# Altium integrated library Linear Technology Power Management Power Control.IntLib: 661 symbols (part 29 of 43)
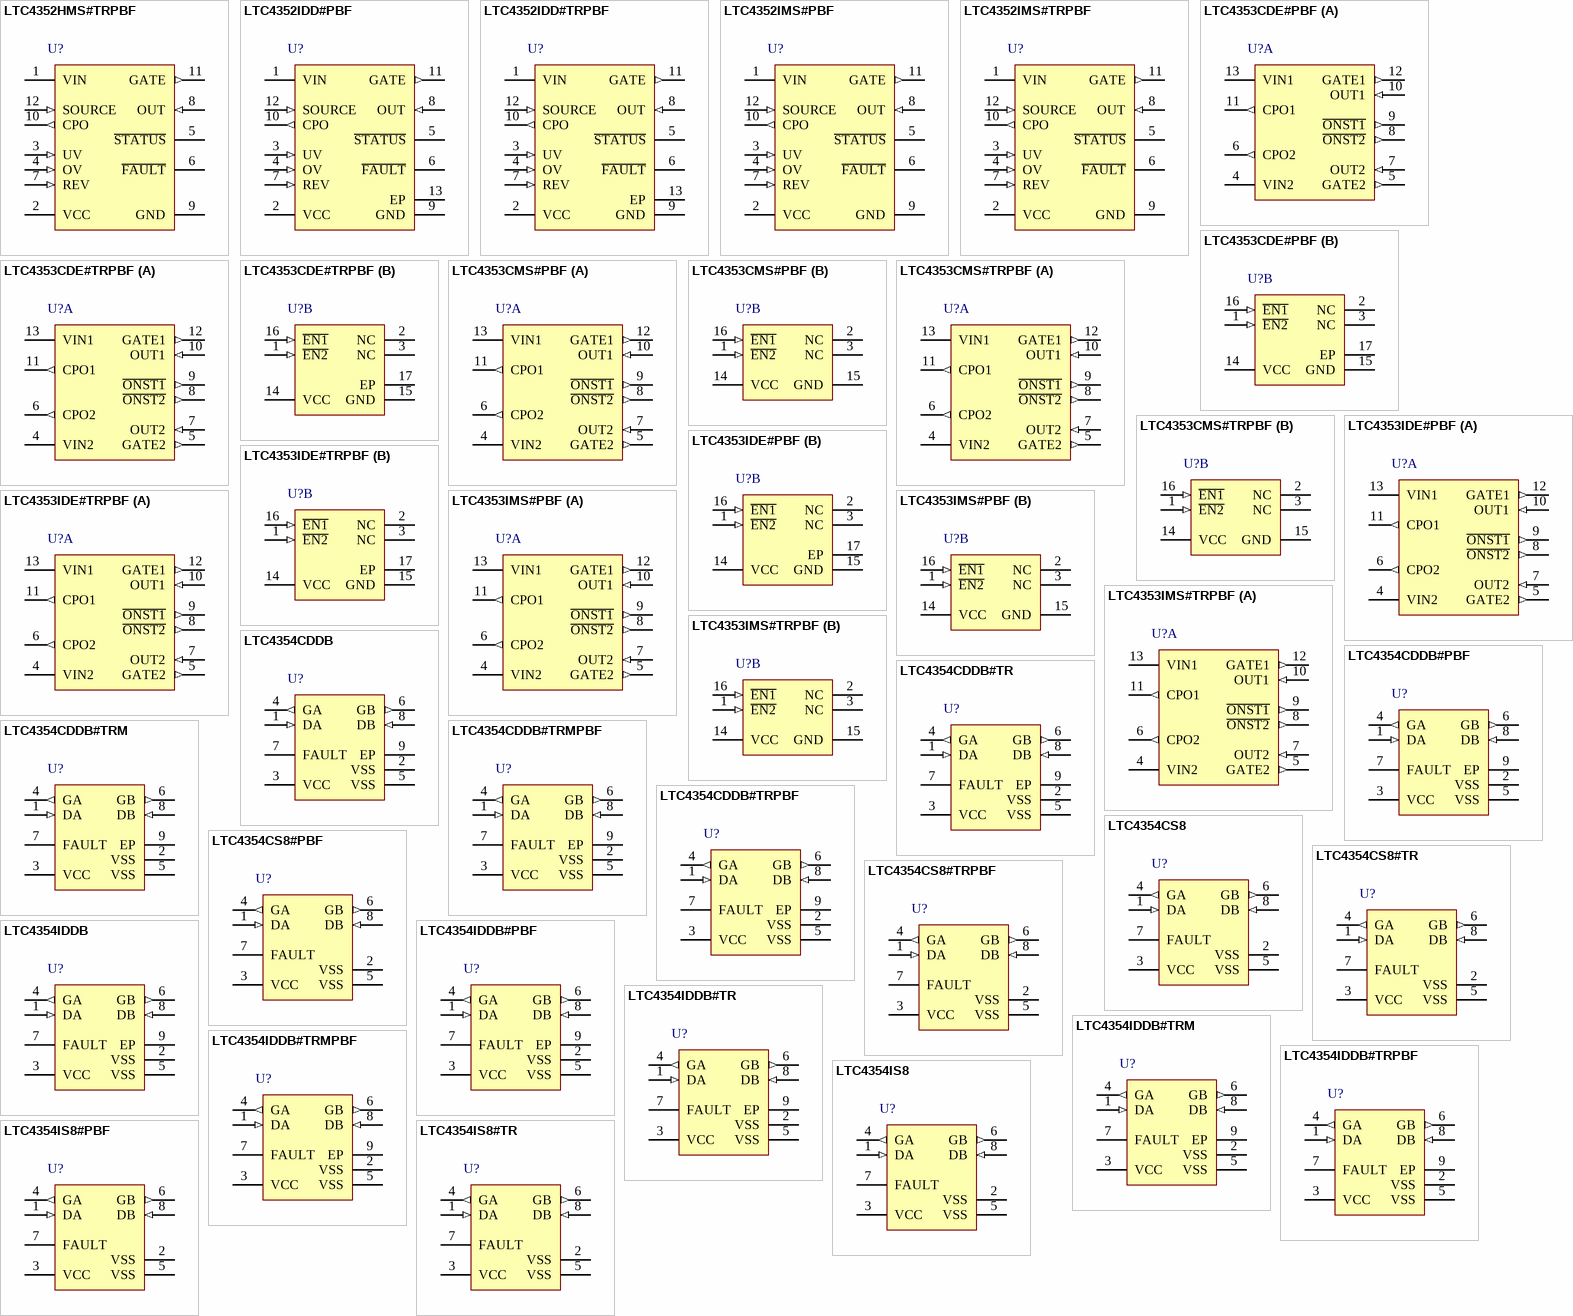
[diagram p47: symbols LTC4352HMS#TRPBF to LTC4354IS8#TR]

## LTC4354CDDB#TR
designator U?
Dual Channel, 1 us Turn-off Time, -12 to -80 V Vin, 8-pin SON (DDB-8), 0 to 70 degC, Tape and Reel; Manufacturer: Linear Technology; PartNumber: LTC4354CDDB#TR; Ideal Diode: Dual, External, N-Channel; DatasheetVersion: Rev. C; PackageVersion: Rev. B, 06/2010; PackageReference: DDB-8; PackageDescription: 8-Pin Plastic DFN, Body 3 x 2 mm, Pitch 0.5 mm; Supplier 1: Digi-Key; Supplier Part Number 1: LTC4354CDDB#TR-ND; Packing: Tape and Reel; RoHS: FALSE; Mounting Technology: Surface Mount; Code_JEDEC: MO-229; ComponentLink1Description: Manufacturer URL; ComponentLink1URL: http://www.linear.com/; ComponentLink2Description: Datasheet; ComponentLink2URL: http://cds.linear.com/docs/en/datasheet/4354fc.pdf; ComponentLink3Description: Package Specification; ComponentLink3URL: http://cds.linear.com/docs/en/packaging/DFN_8_05-08-1702.pdf
footprint LT-DDB-8_V (SON, 8-Leads, Body 3x2mm, Pitch 0.5mm, Thermal Pad 2.2x0.61mm)
pins: 1 DA (in) "Drain Voltage Sense Inputs. These pins sense source drain voltage drop across the N-channel MOSFETs. An external resistor is recommended to protect these pins from transient voltages exceeding 80V in extreme fault conditions.(See Datasheet)", 2 VSS (power) "Negative Supply Voltage Input. This is the device negative supply input and connects to the common source connection of the N-channel MOSFETs. It also connects to the source voltage sense input of the servo amplifiers. For (See Datasheet)", 3 VCC (power) "Positive Supply Voltage Input. Connect this pin to the positive side of the supply through a resistor. An internal shunt regulator that can sink up to 20mA typically clamps VCC at 11V. Bypass this pin with a 1uF capacitor to (See Datasheet)", 4 GA (out) "Gate Drive Outputs. Gate pins pull high to 10V minimum, fully enhancing the N-channel MOSFET, when the load current creates more than 30mV of drop across the MOSFET. When the load current is small, the gates are actively (See Datasheet)", 5 VSS (power) "Negative Supply Voltage Input. This is the device negative supply input and connects to the common source connection of the N-channel MOSFETs. It also connects to the source voltage sense input of the servo amplifiers. For (See Datasheet)", 6 GB (out) "Gate Drive Outputs. Gate pins pull high to 10V minimum, fully enhancing the N-channel MOSFET, when the load current creates more than 30mV of drop across the MOSFET. When the load current is small, the gates are actively (See Datasheet)", 7 FAULT (hiz) "Fault Output. Open-drain output that normally pulls the FAULT pin to VSS and shunts current to turn off an external LED or opto-coupler. In the fault condition, where the pass transistor is fully on and the voltage drop (See Datasheet)", 8 DB (in) "Drain Voltage Sense Inputs. These pins sense source drain voltage drop across the N-channel MOSFETs. An external resistor is recommended to protect these pins from transient voltages exceeding 80V in extreme fault conditions.(See Datasheet)", 9 EP (power) "Exposed pad is common to VSS and may be left open or connected to Pins 2 and 5."

## LTC4354CDDB#TRM
designator U?
Dual Channel, 1 us Turn-off Time, -12 to -80 V Vin, 8-pin SON (DDB-8), 0 to 70 degC, Mini Tape and Reel; Manufacturer: Linear Technology; PartNumber: LTC4354CDDB#TRM; Ideal Diode: Dual, External, N-Channel; DatasheetVersion: Rev. C; PackageVersion: Rev. B, 06/2010; PackageReference: DDB-8; PackageDescription: 8-Pin Plastic DFN, Body 3 x 2 mm, Pitch 0.5 mm; Supplier 1: Digi-Key; Supplier Part Number 1: LTC4354CDDB#TRM-ND; Packing: Mini Tape and Reel; RoHS: FALSE; Mounting Technology: Surface Mount; Code_JEDEC: MO-229; ComponentLink1Description: Manufacturer URL; ComponentLink1URL: http://www.linear.com/; ComponentLink2Description: Datasheet; ComponentLink2URL: http://cds.linear.com/docs/en/datasheet/4354fc.pdf; ComponentLink3Description: Package Specification; ComponentLink3URL: http://cds.linear.com/docs/en/packaging/DFN_8_05-08-1702.pdf
footprint LT-DDB-8_V (SON, 8-Leads, Body 3x2mm, Pitch 0.5mm, Thermal Pad 2.2x0.61mm)
pins: 1 DA (in) "Drain Voltage Sense Inputs. These pins sense source drain voltage drop across the N-channel MOSFETs. An external resistor is recommended to protect these pins from transient voltages exceeding 80V in extreme fault conditions.(See Datasheet)", 2 VSS (power) "Negative Supply Voltage Input. This is the device negative supply input and connects to the common source connection of the N-channel MOSFETs. It also connects to the source voltage sense input of the servo amplifiers. For (See Datasheet)", 3 VCC (power) "Positive Supply Voltage Input. Connect this pin to the positive side of the supply through a resistor. An internal shunt regulator that can sink up to 20mA typically clamps VCC at 11V. Bypass this pin with a 1uF capacitor to (See Datasheet)", 4 GA (out) "Gate Drive Outputs. Gate pins pull high to 10V minimum, fully enhancing the N-channel MOSFET, when the load current creates more than 30mV of drop across the MOSFET. When the load current is small, the gates are actively (See Datasheet)", 5 VSS (power) "Negative Supply Voltage Input. This is the device negative supply input and connects to the common source connection of the N-channel MOSFETs. It also connects to the source voltage sense input of the servo amplifiers. For (See Datasheet)", 6 GB (out) "Gate Drive Outputs. Gate pins pull high to 10V minimum, fully enhancing the N-channel MOSFET, when the load current creates more than 30mV of drop across the MOSFET. When the load current is small, the gates are actively (See Datasheet)", 7 FAULT (hiz) "Fault Output. Open-drain output that normally pulls the FAULT pin to VSS and shunts current to turn off an external LED or opto-coupler. In the fault condition, where the pass transistor is fully on and the voltage drop (See Datasheet)", 8 DB (in) "Drain Voltage Sense Inputs. These pins sense source drain voltage drop across the N-channel MOSFETs. An external resistor is recommended to protect these pins from transient voltages exceeding 80V in extreme fault conditions.(See Datasheet)", 9 EP (power) "Exposed pad is common to VSS and may be left open or connected to Pins 2 and 5."

## LTC4354CDDB#TRMPBF
designator U?
Dual Channel, 1 us Turn-off Time, -12 to -80 V Vin, 8-pin SON (DDB-8), 0 to 70 degC, Pb-Free, Mini Tape and Reel; Manufacturer: Linear Technology; PartNumber: LTC4354CDDB#TRMPBF; Ideal Diode: Dual, External, N-Channel; DatasheetVersion: Rev. C; PackageVersion: Rev. B, 06/2010; PackageReference: DDB-8; PackageDescription: 8-Pin Plastic DFN, Body 3 x 2 mm, Pitch 0.5 mm; Supplier 1: Digi-Key; Supplier Part Number 1: LTC4354CDDB#TRMPBF-ND; Packing: Mini Tape and Reel; RoHS: TRUE; Mounting Technology: Surface Mount; Code_JEDEC: MO-229; ComponentLink1Description: Manufacturer URL; ComponentLink1URL: http://www.linear.com/; ComponentLink2Description: Datasheet; ComponentLink2URL: http://cds.linear.com/docs/en/datasheet/4354fc.pdf; ComponentLink3Description: Package Specification; ComponentLink3URL: http://cds.linear.com/docs/en/packaging/DFN_8_05-08-1702.pdf
footprint LT-DDB-8_V (SON, 8-Leads, Body 3x2mm, Pitch 0.5mm, Thermal Pad 2.2x0.61mm)
pins: 1 DA (in) "Drain Voltage Sense Inputs. These pins sense source drain voltage drop across the N-channel MOSFETs. An external resistor is recommended to protect these pins from transient voltages exceeding 80V in extreme fault conditions.(See Datasheet)", 2 VSS (power) "Negative Supply Voltage Input. This is the device negative supply input and connects to the common source connection of the N-channel MOSFETs. It also connects to the source voltage sense input of the servo amplifiers. For (See Datasheet)", 3 VCC (power) "Positive Supply Voltage Input. Connect this pin to the positive side of the supply through a resistor. An internal shunt regulator that can sink up to 20mA typically clamps VCC at 11V. Bypass this pin with a 1uF capacitor to (See Datasheet)", 4 GA (out) "Gate Drive Outputs. Gate pins pull high to 10V minimum, fully enhancing the N-channel MOSFET, when the load current creates more than 30mV of drop across the MOSFET. When the load current is small, the gates are actively (See Datasheet)", 5 VSS (power) "Negative Supply Voltage Input. This is the device negative supply input and connects to the common source connection of the N-channel MOSFETs. It also connects to the source voltage sense input of the servo amplifiers. For (See Datasheet)", 6 GB (out) "Gate Drive Outputs. Gate pins pull high to 10V minimum, fully enhancing the N-channel MOSFET, when the load current creates more than 30mV of drop across the MOSFET. When the load current is small, the gates are actively (See Datasheet)", 7 FAULT (hiz) "Fault Output. Open-drain output that normally pulls the FAULT pin to VSS and shunts current to turn off an external LED or opto-coupler. In the fault condition, where the pass transistor is fully on and the voltage drop (See Datasheet)", 8 DB (in) "Drain Voltage Sense Inputs. These pins sense source drain voltage drop across the N-channel MOSFETs. An external resistor is recommended to protect these pins from transient voltages exceeding 80V in extreme fault conditions.(See Datasheet)", 9 EP (power) "Exposed pad is common to VSS and may be left open or connected to Pins 2 and 5."

## LTC4354CDDB#TRPBF
designator U?
Dual Channel, 1 us Turn-off Time, -12 to -80 V Vin, 8-pin SON (DDB-8), 0 to 70 degC, Pb-Free, Tape and Reel; Manufacturer: Linear Technology; PartNumber: LTC4354CDDB#TRPBF; Ideal Diode: Dual, External, N-Channel; DatasheetVersion: Rev. C; PackageVersion: Rev. B, 06/2010; PackageReference: DDB-8; PackageDescription: 8-Pin Plastic DFN, Body 3 x 2 mm, Pitch 0.5 mm; Supplier 1: Digi-Key; Supplier Part Number 1: LTC4354CDDB#TRPBF-ND; Packing: Tape and Reel; RoHS: TRUE; Mounting Technology: Surface Mount; Code_JEDEC: MO-229; ComponentLink1Description: Manufacturer URL; ComponentLink1URL: http://www.linear.com/; ComponentLink2Description: Datasheet; ComponentLink2URL: http://cds.linear.com/docs/en/datasheet/4354fc.pdf; ComponentLink3Description: Package Specification; ComponentLink3URL: http://cds.linear.com/docs/en/packaging/DFN_8_05-08-1702.pdf
footprint LT-DDB-8_V (SON, 8-Leads, Body 3x2mm, Pitch 0.5mm, Thermal Pad 2.2x0.61mm)
pins: 1 DA (in) "Drain Voltage Sense Inputs. These pins sense source drain voltage drop across the N-channel MOSFETs. An external resistor is recommended to protect these pins from transient voltages exceeding 80V in extreme fault conditions.(See Datasheet)", 2 VSS (power) "Negative Supply Voltage Input. This is the device negative supply input and connects to the common source connection of the N-channel MOSFETs. It also connects to the source voltage sense input of the servo amplifiers. For (See Datasheet)", 3 VCC (power) "Positive Supply Voltage Input. Connect this pin to the positive side of the supply through a resistor. An internal shunt regulator that can sink up to 20mA typically clamps VCC at 11V. Bypass this pin with a 1uF capacitor to (See Datasheet)", 4 GA (out) "Gate Drive Outputs. Gate pins pull high to 10V minimum, fully enhancing the N-channel MOSFET, when the load current creates more than 30mV of drop across the MOSFET. When the load current is small, the gates are actively (See Datasheet)", 5 VSS (power) "Negative Supply Voltage Input. This is the device negative supply input and connects to the common source connection of the N-channel MOSFETs. It also connects to the source voltage sense input of the servo amplifiers. For (See Datasheet)", 6 GB (out) "Gate Drive Outputs. Gate pins pull high to 10V minimum, fully enhancing the N-channel MOSFET, when the load current creates more than 30mV of drop across the MOSFET. When the load current is small, the gates are actively (See Datasheet)", 7 FAULT (hiz) "Fault Output. Open-drain output that normally pulls the FAULT pin to VSS and shunts current to turn off an external LED or opto-coupler. In the fault condition, where the pass transistor is fully on and the voltage drop (See Datasheet)", 8 DB (in) "Drain Voltage Sense Inputs. These pins sense source drain voltage drop across the N-channel MOSFETs. An external resistor is recommended to protect these pins from transient voltages exceeding 80V in extreme fault conditions.(See Datasheet)", 9 EP (power) "Exposed pad is common to VSS and may be left open or connected to Pins 2 and 5."

## LTC4354CS8
designator U?
Dual Channel, 1 us Turn-off Time, -12 to -80 V Vin, 8-pin SOIC (S8-8), 0 to 70 degC; Manufacturer: Linear Technology; PartNumber: LTC4354CS8; Ideal Diode: Dual, External, N-Channel; DatasheetVersion: Rev. C; PackageVersion: Rev. G, 03/2012; PackageReference: S8-8; PackageDescription: 8-Pin Plastic Small Outline (Narrow .150 Inch), Body 4.9 x 3.9 mm, Pitch 1.27 mm; Supplier 1: Digi-Key; Supplier Part Number 1: LTC4354CS8-ND; Supplier 2: Newark; Supplier Part Number 2: 56M9446; RoHS: FALSE; Mounting Technology: Surface Mount; ComponentLink1Description: Manufacturer URL; ComponentLink1URL: http://www.linear.com/; ComponentLink2Description: Datasheet; ComponentLink2URL: http://cds.linear.com/docs/en/datasheet/4354fc.pdf; ComponentLink3Description: Package Specification; ComponentLink3URL: http://cds.linear.com/docs/en/packaging/05081610_G_SO8.pdf
footprint LT-S8-8_N (SOIC, 8-Leads, Body 5x4mm, Pitch 1.27mm, IPC Medium Density)
footprint LT-S8-8_L (SOIC, 8-Leads, Body 5x4mm, Pitch 1.27mm, IPC High Density)
footprint LT-S8-8_M (SOIC, 8-Leads, Body 5x4mm, Pitch 1.27mm, IPC Low Density)
pins: 1 DA (in) "Drain Voltage Sense Inputs. These pins sense source drain voltage drop across the N-channel MOSFETs. An external resistor is recommended to protect these pins from transient voltages exceeding 80V in extreme fault conditions.(See Datasheet)", 2 VSS (power) "Negative Supply Voltage Input. This is the device negative supply input and connects to the common source connection of the N-channel MOSFETs. It also connects to the source voltage sense input of the servo amplifiers. For (See Datasheet)", 3 VCC (power) "Positive Supply Voltage Input. Connect this pin to the positive side of the supply through a resistor. An internal shunt regulator that can sink up to 20mA typically clamps VCC at 11V. Bypass this pin with a 1uF capacitor to (See Datasheet)", 4 GA (out) "Gate Drive Outputs. Gate pins pull high to 10V minimum, fully enhancing the N-channel MOSFET, when the load current creates more than 30mV of drop across the MOSFET. When the load current is small, the gates are actively (See Datasheet)", 5 VSS (power) "Negative Supply Voltage Input. This is the device negative supply input and connects to the common source connection of the N-channel MOSFETs. It also connects to the source voltage sense input of the servo amplifiers. For (See Datasheet)", 6 GB (out) "Gate Drive Outputs. Gate pins pull high to 10V minimum, fully enhancing the N-channel MOSFET, when the load current creates more than 30mV of drop across the MOSFET. When the load current is small, the gates are actively (See Datasheet)", 7 FAULT (hiz) "Fault Output. Open-drain output that normally pulls the FAULT pin to VSS and shunts current to turn off an external LED or opto-coupler. In the fault condition, where the pass transistor is fully on and the voltage drop (See Datasheet)", 8 DB (in) "Drain Voltage Sense Inputs. These pins sense source drain voltage drop across the N-channel MOSFETs. An external resistor is recommended to protect these pins from transient voltages exceeding 80V in extreme fault conditions.(See Datasheet)"

## LTC4354CS8#PBF
designator U?
Dual Channel, 1 us Turn-off Time, -12 to -80 V Vin, 8-pin SOIC (S8-8), 0 to 70 degC, Pb-Free; Manufacturer: Linear Technology; PartNumber: LTC4354CS8#PBF; Ideal Diode: Dual, External, N-Channel; DatasheetVersion: Rev. C; PackageVersion: Rev. G, 03/2012; PackageReference: S8-8; PackageDescription: 8-Pin Plastic Small Outline (Narrow .150 Inch), Body 4.9 x 3.9 mm, Pitch 1.27 mm; Supplier 1: Digi-Key; Supplier Part Number 1: LTC4354CS8#PBF-ND; Supplier 2: Farnell; Supplier Part Number 2: 2295290; Supplier 3: Newark; Supplier Part Number 3: 56M9447; RoHS: TRUE; Mounting Technology: Surface Mount; ComponentLink1Description: Manufacturer URL; ComponentLink1URL: http://www.linear.com/; ComponentLink2Description: Datasheet; ComponentLink2URL: http://cds.linear.com/docs/en/datasheet/4354fc.pdf; ComponentLink3Description: Package Specification; ComponentLink3URL: http://cds.linear.com/docs/en/packaging/05081610_G_SO8.pdf
footprint LT-S8-8_N (SOIC, 8-Leads, Body 5x4mm, Pitch 1.27mm, IPC Medium Density)
footprint LT-S8-8_L (SOIC, 8-Leads, Body 5x4mm, Pitch 1.27mm, IPC High Density)
footprint LT-S8-8_M (SOIC, 8-Leads, Body 5x4mm, Pitch 1.27mm, IPC Low Density)
pins: 1 DA (in) "Drain Voltage Sense Inputs. These pins sense source drain voltage drop across the N-channel MOSFETs. An external resistor is recommended to protect these pins from transient voltages exceeding 80V in extreme fault conditions.(See Datasheet)", 2 VSS (power) "Negative Supply Voltage Input. This is the device negative supply input and connects to the common source connection of the N-channel MOSFETs. It also connects to the source voltage sense input of the servo amplifiers. For (See Datasheet)", 3 VCC (power) "Positive Supply Voltage Input. Connect this pin to the positive side of the supply through a resistor. An internal shunt regulator that can sink up to 20mA typically clamps VCC at 11V. Bypass this pin with a 1uF capacitor to (See Datasheet)", 4 GA (out) "Gate Drive Outputs. Gate pins pull high to 10V minimum, fully enhancing the N-channel MOSFET, when the load current creates more than 30mV of drop across the MOSFET. When the load current is small, the gates are actively (See Datasheet)", 5 VSS (power) "Negative Supply Voltage Input. This is the device negative supply input and connects to the common source connection of the N-channel MOSFETs. It also connects to the source voltage sense input of the servo amplifiers. For (See Datasheet)", 6 GB (out) "Gate Drive Outputs. Gate pins pull high to 10V minimum, fully enhancing the N-channel MOSFET, when the load current creates more than 30mV of drop across the MOSFET. When the load current is small, the gates are actively (See Datasheet)", 7 FAULT (hiz) "Fault Output. Open-drain output that normally pulls the FAULT pin to VSS and shunts current to turn off an external LED or opto-coupler. In the fault condition, where the pass transistor is fully on and the voltage drop (See Datasheet)", 8 DB (in) "Drain Voltage Sense Inputs. These pins sense source drain voltage drop across the N-channel MOSFETs. An external resistor is recommended to protect these pins from transient voltages exceeding 80V in extreme fault conditions.(See Datasheet)"

## LTC4354CS8#TR
designator U?
Dual Channel, 1 us Turn-off Time, -12 to -80 V Vin, 8-pin SOIC (S8-8), 0 to 70 degC, Tape and Reel; Manufacturer: Linear Technology; PartNumber: LTC4354CS8#TR; Ideal Diode: Dual, External, N-Channel; DatasheetVersion: Rev. C; PackageVersion: Rev. G, 03/2012; PackageReference: S8-8; PackageDescription: 8-Pin Plastic Small Outline (Narrow .150 Inch), Body 4.9 x 3.9 mm, Pitch 1.27 mm; Supplier 1: Digi-Key; Supplier Part Number 1: LTC4354CS8#TR-ND; Supplier 2: Newark; Supplier Part Number 2: 56M9448; Packing: Tape and Reel; RoHS: FALSE; Mounting Technology: Surface Mount; ComponentLink1Description: Manufacturer URL; ComponentLink1URL: http://www.linear.com/; ComponentLink2Description: Datasheet; ComponentLink2URL: http://cds.linear.com/docs/en/datasheet/4354fc.pdf; ComponentLink3Description: Package Specification; ComponentLink3URL: http://cds.linear.com/docs/en/packaging/05081610_G_SO8.pdf
footprint LT-S8-8_N (SOIC, 8-Leads, Body 5x4mm, Pitch 1.27mm, IPC Medium Density)
footprint LT-S8-8_L (SOIC, 8-Leads, Body 5x4mm, Pitch 1.27mm, IPC High Density)
footprint LT-S8-8_M (SOIC, 8-Leads, Body 5x4mm, Pitch 1.27mm, IPC Low Density)
pins: 1 DA (in) "Drain Voltage Sense Inputs. These pins sense source drain voltage drop across the N-channel MOSFETs. An external resistor is recommended to protect these pins from transient voltages exceeding 80V in extreme fault conditions.(See Datasheet)", 2 VSS (power) "Negative Supply Voltage Input. This is the device negative supply input and connects to the common source connection of the N-channel MOSFETs. It also connects to the source voltage sense input of the servo amplifiers. For (See Datasheet)", 3 VCC (power) "Positive Supply Voltage Input. Connect this pin to the positive side of the supply through a resistor. An internal shunt regulator that can sink up to 20mA typically clamps VCC at 11V. Bypass this pin with a 1uF capacitor to (See Datasheet)", 4 GA (out) "Gate Drive Outputs. Gate pins pull high to 10V minimum, fully enhancing the N-channel MOSFET, when the load current creates more than 30mV of drop across the MOSFET. When the load current is small, the gates are actively (See Datasheet)", 5 VSS (power) "Negative Supply Voltage Input. This is the device negative supply input and connects to the common source connection of the N-channel MOSFETs. It also connects to the source voltage sense input of the servo amplifiers. For (See Datasheet)", 6 GB (out) "Gate Drive Outputs. Gate pins pull high to 10V minimum, fully enhancing the N-channel MOSFET, when the load current creates more than 30mV of drop across the MOSFET. When the load current is small, the gates are actively (See Datasheet)", 7 FAULT (hiz) "Fault Output. Open-drain output that normally pulls the FAULT pin to VSS and shunts current to turn off an external LED or opto-coupler. In the fault condition, where the pass transistor is fully on and the voltage drop (See Datasheet)", 8 DB (in) "Drain Voltage Sense Inputs. These pins sense source drain voltage drop across the N-channel MOSFETs. An external resistor is recommended to protect these pins from transient voltages exceeding 80V in extreme fault conditions.(See Datasheet)"

## LTC4354CS8#TRPBF
designator U?
Dual Channel, 1 us Turn-off Time, -12 to -80 V Vin, 8-pin SOIC (S8-8), 0 to 70 degC, Pb-Free, Tape and Reel; Manufacturer: Linear Technology; PartNumber: LTC4354CS8#TRPBF; Ideal Diode: Dual, External, N-Channel; DatasheetVersion: Rev. C; PackageVersion: Rev. G, 03/2012; PackageReference: S8-8; PackageDescription: 8-Pin Plastic Small Outline (Narrow .150 Inch), Body 4.9 x 3.9 mm, Pitch 1.27 mm; Supplier 1: Digi-Key; Supplier Part Number 1: LTC4354CS8#TRPBF-ND; Supplier 2: Newark; Supplier Part Number 2: 56M9449; Packing: Tape and Reel; RoHS: TRUE; Mounting Technology: Surface Mount; ComponentLink1Description: Manufacturer URL; ComponentLink1URL: http://www.linear.com/; ComponentLink2Description: Datasheet; ComponentLink2URL: http://cds.linear.com/docs/en/datasheet/4354fc.pdf; ComponentLink3Description: Package Specification; ComponentLink3URL: http://cds.linear.com/docs/en/packaging/05081610_G_SO8.pdf
footprint LT-S8-8_N (SOIC, 8-Leads, Body 5x4mm, Pitch 1.27mm, IPC Medium Density)
footprint LT-S8-8_L (SOIC, 8-Leads, Body 5x4mm, Pitch 1.27mm, IPC High Density)
footprint LT-S8-8_M (SOIC, 8-Leads, Body 5x4mm, Pitch 1.27mm, IPC Low Density)
pins: 1 DA (in) "Drain Voltage Sense Inputs. These pins sense source drain voltage drop across the N-channel MOSFETs. An external resistor is recommended to protect these pins from transient voltages exceeding 80V in extreme fault conditions.(See Datasheet)", 2 VSS (power) "Negative Supply Voltage Input. This is the device negative supply input and connects to the common source connection of the N-channel MOSFETs. It also connects to the source voltage sense input of the servo amplifiers. For (See Datasheet)", 3 VCC (power) "Positive Supply Voltage Input. Connect this pin to the positive side of the supply through a resistor. An internal shunt regulator that can sink up to 20mA typically clamps VCC at 11V. Bypass this pin with a 1uF capacitor to (See Datasheet)", 4 GA (out) "Gate Drive Outputs. Gate pins pull high to 10V minimum, fully enhancing the N-channel MOSFET, when the load current creates more than 30mV of drop across the MOSFET. When the load current is small, the gates are actively (See Datasheet)", 5 VSS (power) "Negative Supply Voltage Input. This is the device negative supply input and connects to the common source connection of the N-channel MOSFETs. It also connects to the source voltage sense input of the servo amplifiers. For (See Datasheet)", 6 GB (out) "Gate Drive Outputs. Gate pins pull high to 10V minimum, fully enhancing the N-channel MOSFET, when the load current creates more than 30mV of drop across the MOSFET. When the load current is small, the gates are actively (See Datasheet)", 7 FAULT (hiz) "Fault Output. Open-drain output that normally pulls the FAULT pin to VSS and shunts current to turn off an external LED or opto-coupler. In the fault condition, where the pass transistor is fully on and the voltage drop (See Datasheet)", 8 DB (in) "Drain Voltage Sense Inputs. These pins sense source drain voltage drop across the N-channel MOSFETs. An external resistor is recommended to protect these pins from transient voltages exceeding 80V in extreme fault conditions.(See Datasheet)"

## LTC4354IDDB
designator U?
Dual Channel, 1 us Turn-off Time, -12 to -80 V Vin, 8-pin SON (DDB-8), -40 to 85 degC; Manufacturer: Linear Technology; PartNumber: LTC4354IDDB; Ideal Diode: Dual, External, N-Channel; DatasheetVersion: Rev. C; PackageVersion: Rev. B, 06/2010; PackageReference: DDB-8; PackageDescription: 8-Pin Plastic DFN, Body 3 x 2 mm, Pitch 0.5 mm; RoHS: FALSE; Mounting Technology: Surface Mount; Code_JEDEC: MO-229; ComponentLink1Description: Manufacturer URL; ComponentLink1URL: http://www.linear.com/; ComponentLink2Description: Datasheet; ComponentLink2URL: http://cds.linear.com/docs/en/datasheet/4354fc.pdf; ComponentLink3Description: Package Specification; ComponentLink3URL: http://cds.linear.com/docs/en/packaging/DFN_8_05-08-1702.pdf
footprint LT-DDB-8_V (SON, 8-Leads, Body 3x2mm, Pitch 0.5mm, Thermal Pad 2.2x0.61mm)
pins: 1 DA (in) "Drain Voltage Sense Inputs. These pins sense source drain voltage drop across the N-channel MOSFETs. An external resistor is recommended to protect these pins from transient voltages exceeding 80V in extreme fault conditions.(See Datasheet)", 2 VSS (power) "Negative Supply Voltage Input. This is the device negative supply input and connects to the common source connection of the N-channel MOSFETs. It also connects to the source voltage sense input of the servo amplifiers. For (See Datasheet)", 3 VCC (power) "Positive Supply Voltage Input. Connect this pin to the positive side of the supply through a resistor. An internal shunt regulator that can sink up to 20mA typically clamps VCC at 11V. Bypass this pin with a 1uF capacitor to (See Datasheet)", 4 GA (out) "Gate Drive Outputs. Gate pins pull high to 10V minimum, fully enhancing the N-channel MOSFET, when the load current creates more than 30mV of drop across the MOSFET. When the load current is small, the gates are actively (See Datasheet)", 5 VSS (power) "Negative Supply Voltage Input. This is the device negative supply input and connects to the common source connection of the N-channel MOSFETs. It also connects to the source voltage sense input of the servo amplifiers. For (See Datasheet)", 6 GB (out) "Gate Drive Outputs. Gate pins pull high to 10V minimum, fully enhancing the N-channel MOSFET, when the load current creates more than 30mV of drop across the MOSFET. When the load current is small, the gates are actively (See Datasheet)", 7 FAULT (hiz) "Fault Output. Open-drain output that normally pulls the FAULT pin to VSS and shunts current to turn off an external LED or opto-coupler. In the fault condition, where the pass transistor is fully on and the voltage drop (See Datasheet)", 8 DB (in) "Drain Voltage Sense Inputs. These pins sense source drain voltage drop across the N-channel MOSFETs. An external resistor is recommended to protect these pins from transient voltages exceeding 80V in extreme fault conditions.(See Datasheet)", 9 EP (power) "Exposed pad is common to VSS and may be left open or connected to Pins 2 and 5."

## LTC4354IDDB#PBF
designator U?
Dual Channel, 1 us Turn-off Time, -12 to -80 V Vin, 8-pin SON (DDB-8), -40 to 85 degC, Pb-Free; Manufacturer: Linear Technology; PartNumber: LTC4354IDDB#PBF; Ideal Diode: Dual, External, N-Channel; DatasheetVersion: Rev. C; PackageVersion: Rev. B, 06/2010; PackageReference: DDB-8; PackageDescription: 8-Pin Plastic DFN, Body 3 x 2 mm, Pitch 0.5 mm; Supplier 1: Farnell; Supplier Part Number 1: 2295291; Supplier 2: Newark; Supplier Part Number 2: 78T3366; RoHS: TRUE; Mounting Technology: Surface Mount; Code_JEDEC: MO-229; ComponentLink1Description: Manufacturer URL; ComponentLink1URL: http://www.linear.com/; ComponentLink2Description: Datasheet; ComponentLink2URL: http://cds.linear.com/docs/en/datasheet/4354fc.pdf; ComponentLink3Description: Package Specification; ComponentLink3URL: http://cds.linear.com/docs/en/packaging/DFN_8_05-08-1702.pdf
footprint LT-DDB-8_V (SON, 8-Leads, Body 3x2mm, Pitch 0.5mm, Thermal Pad 2.2x0.61mm)
pins: 1 DA (in) "Drain Voltage Sense Inputs. These pins sense source drain voltage drop across the N-channel MOSFETs. An external resistor is recommended to protect these pins from transient voltages exceeding 80V in extreme fault conditions.(See Datasheet)", 2 VSS (power) "Negative Supply Voltage Input. This is the device negative supply input and connects to the common source connection of the N-channel MOSFETs. It also connects to the source voltage sense input of the servo amplifiers. For (See Datasheet)", 3 VCC (power) "Positive Supply Voltage Input. Connect this pin to the positive side of the supply through a resistor. An internal shunt regulator that can sink up to 20mA typically clamps VCC at 11V. Bypass this pin with a 1uF capacitor to (See Datasheet)", 4 GA (out) "Gate Drive Outputs. Gate pins pull high to 10V minimum, fully enhancing the N-channel MOSFET, when the load current creates more than 30mV of drop across the MOSFET. When the load current is small, the gates are actively (See Datasheet)", 5 VSS (power) "Negative Supply Voltage Input. This is the device negative supply input and connects to the common source connection of the N-channel MOSFETs. It also connects to the source voltage sense input of the servo amplifiers. For (See Datasheet)", 6 GB (out) "Gate Drive Outputs. Gate pins pull high to 10V minimum, fully enhancing the N-channel MOSFET, when the load current creates more than 30mV of drop across the MOSFET. When the load current is small, the gates are actively (See Datasheet)", 7 FAULT (hiz) "Fault Output. Open-drain output that normally pulls the FAULT pin to VSS and shunts current to turn off an external LED or opto-coupler. In the fault condition, where the pass transistor is fully on and the voltage drop (See Datasheet)", 8 DB (in) "Drain Voltage Sense Inputs. These pins sense source drain voltage drop across the N-channel MOSFETs. An external resistor is recommended to protect these pins from transient voltages exceeding 80V in extreme fault conditions.(See Datasheet)", 9 EP (power) "Exposed pad is common to VSS and may be left open or connected to Pins 2 and 5."

## LTC4354IDDB#TR
designator U?
Dual Channel, 1 us Turn-off Time, -12 to -80 V Vin, 8-pin SON (DDB-8), -40 to 85 degC, Tape and Reel; Manufacturer: Linear Technology; PartNumber: LTC4354IDDB#TR; Ideal Diode: Dual, External, N-Channel; DatasheetVersion: Rev. C; PackageVersion: Rev. B, 06/2010; PackageReference: DDB-8; PackageDescription: 8-Pin Plastic DFN, Body 3 x 2 mm, Pitch 0.5 mm; Supplier 1: Digi-Key; Supplier Part Number 1: LTC4354IDDB#TR-ND; Packing: Tape and Reel; RoHS: FALSE; Mounting Technology: Surface Mount; Code_JEDEC: MO-229; ComponentLink1Description: Manufacturer URL; ComponentLink1URL: http://www.linear.com/; ComponentLink2Description: Datasheet; ComponentLink2URL: http://cds.linear.com/docs/en/datasheet/4354fc.pdf; ComponentLink3Description: Package Specification; ComponentLink3URL: http://cds.linear.com/docs/en/packaging/DFN_8_05-08-1702.pdf
footprint LT-DDB-8_V (SON, 8-Leads, Body 3x2mm, Pitch 0.5mm, Thermal Pad 2.2x0.61mm)
pins: 1 DA (in) "Drain Voltage Sense Inputs. These pins sense source drain voltage drop across the N-channel MOSFETs. An external resistor is recommended to protect these pins from transient voltages exceeding 80V in extreme fault conditions.(See Datasheet)", 2 VSS (power) "Negative Supply Voltage Input. This is the device negative supply input and connects to the common source connection of the N-channel MOSFETs. It also connects to the source voltage sense input of the servo amplifiers. For (See Datasheet)", 3 VCC (power) "Positive Supply Voltage Input. Connect this pin to the positive side of the supply through a resistor. An internal shunt regulator that can sink up to 20mA typically clamps VCC at 11V. Bypass this pin with a 1uF capacitor to (See Datasheet)", 4 GA (out) "Gate Drive Outputs. Gate pins pull high to 10V minimum, fully enhancing the N-channel MOSFET, when the load current creates more than 30mV of drop across the MOSFET. When the load current is small, the gates are actively (See Datasheet)", 5 VSS (power) "Negative Supply Voltage Input. This is the device negative supply input and connects to the common source connection of the N-channel MOSFETs. It also connects to the source voltage sense input of the servo amplifiers. For (See Datasheet)", 6 GB (out) "Gate Drive Outputs. Gate pins pull high to 10V minimum, fully enhancing the N-channel MOSFET, when the load current creates more than 30mV of drop across the MOSFET. When the load current is small, the gates are actively (See Datasheet)", 7 FAULT (hiz) "Fault Output. Open-drain output that normally pulls the FAULT pin to VSS and shunts current to turn off an external LED or opto-coupler. In the fault condition, where the pass transistor is fully on and the voltage drop (See Datasheet)", 8 DB (in) "Drain Voltage Sense Inputs. These pins sense source drain voltage drop across the N-channel MOSFETs. An external resistor is recommended to protect these pins from transient voltages exceeding 80V in extreme fault conditions.(See Datasheet)", 9 EP (power) "Exposed pad is common to VSS and may be left open or connected to Pins 2 and 5."

## LTC4354IDDB#TRM
designator U?
Dual Channel, 1 us Turn-off Time, -12 to -80 V Vin, 8-pin SON (DDB-8), -40 to 85 degC, Mini Tape and Reel; Manufacturer: Linear Technology; PartNumber: LTC4354IDDB#TRM; Ideal Diode: Dual, External, N-Channel; DatasheetVersion: Rev. C; PackageVersion: Rev. B, 06/2010; PackageReference: DDB-8; PackageDescription: 8-Pin Plastic DFN, Body 3 x 2 mm, Pitch 0.5 mm; Supplier 1: Digi-Key; Supplier Part Number 1: LTC4354IDDB#TRM-ND; Packing: Mini Tape and Reel; RoHS: FALSE; Mounting Technology: Surface Mount; Code_JEDEC: MO-229; ComponentLink1Description: Manufacturer URL; ComponentLink1URL: http://www.linear.com/; ComponentLink2Description: Datasheet; ComponentLink2URL: http://cds.linear.com/docs/en/datasheet/4354fc.pdf; ComponentLink3Description: Package Specification; ComponentLink3URL: http://cds.linear.com/docs/en/packaging/DFN_8_05-08-1702.pdf
footprint LT-DDB-8_V (SON, 8-Leads, Body 3x2mm, Pitch 0.5mm, Thermal Pad 2.2x0.61mm)
pins: 1 DA (in) "Drain Voltage Sense Inputs. These pins sense source drain voltage drop across the N-channel MOSFETs. An external resistor is recommended to protect these pins from transient voltages exceeding 80V in extreme fault conditions.(See Datasheet)", 2 VSS (power) "Negative Supply Voltage Input. This is the device negative supply input and connects to the common source connection of the N-channel MOSFETs. It also connects to the source voltage sense input of the servo amplifiers. For (See Datasheet)", 3 VCC (power) "Positive Supply Voltage Input. Connect this pin to the positive side of the supply through a resistor. An internal shunt regulator that can sink up to 20mA typically clamps VCC at 11V. Bypass this pin with a 1uF capacitor to (See Datasheet)", 4 GA (out) "Gate Drive Outputs. Gate pins pull high to 10V minimum, fully enhancing the N-channel MOSFET, when the load current creates more than 30mV of drop across the MOSFET. When the load current is small, the gates are actively (See Datasheet)", 5 VSS (power) "Negative Supply Voltage Input. This is the device negative supply input and connects to the common source connection of the N-channel MOSFETs. It also connects to the source voltage sense input of the servo amplifiers. For (See Datasheet)", 6 GB (out) "Gate Drive Outputs. Gate pins pull high to 10V minimum, fully enhancing the N-channel MOSFET, when the load current creates more than 30mV of drop across the MOSFET. When the load current is small, the gates are actively (See Datasheet)", 7 FAULT (hiz) "Fault Output. Open-drain output that normally pulls the FAULT pin to VSS and shunts current to turn off an external LED or opto-coupler. In the fault condition, where the pass transistor is fully on and the voltage drop (See Datasheet)", 8 DB (in) "Drain Voltage Sense Inputs. These pins sense source drain voltage drop across the N-channel MOSFETs. An external resistor is recommended to protect these pins from transient voltages exceeding 80V in extreme fault conditions.(See Datasheet)", 9 EP (power) "Exposed pad is common to VSS and may be left open or connected to Pins 2 and 5."

## LTC4354IDDB#TRMPBF
designator U?
Dual Channel, 1 us Turn-off Time, -12 to -80 V Vin, 8-pin SON (DDB-8), -40 to 85 degC, Pb-Free, Mini Tape and Reel; Manufacturer: Linear Technology; PartNumber: LTC4354IDDB#TRMPBF; Ideal Diode: Dual, External, N-Channel; DatasheetVersion: Rev. C; PackageVersion: Rev. B, 06/2010; PackageReference: DDB-8; PackageDescription: 8-Pin Plastic DFN, Body 3 x 2 mm, Pitch 0.5 mm; Supplier 1: Digi-Key; Supplier Part Number 1: LTC4354IDDB#TRMPBFTR-ND; Supplier 2: Digi-Key; Supplier Part Number 2: LTC4354IDDB#TRMPBFCT-ND; Supplier 3: Digi-Key; Supplier Part Number 3: LTC4354IDDB#TRMPBFDKR-ND; Supplier 4: Newark; Supplier Part Number 4: 56M9452; Packing: Mini Tape and Reel; RoHS: TRUE; Mounting Technology: Surface Mount; Code_JEDEC: MO-229; ComponentLink1Description: Manufacturer URL; ComponentLink1URL: http://www.linear.com/; ComponentLink2Description: Datasheet; ComponentLink2URL: http://cds.linear.com/docs/en/datasheet/4354fc.pdf; ComponentLink3Description: Package Specification; ComponentLink3URL: http://cds.linear.com/docs/en/packaging/DFN_8_05-08-1702.pdf
footprint LT-DDB-8_V (SON, 8-Leads, Body 3x2mm, Pitch 0.5mm, Thermal Pad 2.2x0.61mm)
pins: 1 DA (in) "Drain Voltage Sense Inputs. These pins sense source drain voltage drop across the N-channel MOSFETs. An external resistor is recommended to protect these pins from transient voltages exceeding 80V in extreme fault conditions.(See Datasheet)", 2 VSS (power) "Negative Supply Voltage Input. This is the device negative supply input and connects to the common source connection of the N-channel MOSFETs. It also connects to the source voltage sense input of the servo amplifiers. For (See Datasheet)", 3 VCC (power) "Positive Supply Voltage Input. Connect this pin to the positive side of the supply through a resistor. An internal shunt regulator that can sink up to 20mA typically clamps VCC at 11V. Bypass this pin with a 1uF capacitor to (See Datasheet)", 4 GA (out) "Gate Drive Outputs. Gate pins pull high to 10V minimum, fully enhancing the N-channel MOSFET, when the load current creates more than 30mV of drop across the MOSFET. When the load current is small, the gates are actively (See Datasheet)", 5 VSS (power) "Negative Supply Voltage Input. This is the device negative supply input and connects to the common source connection of the N-channel MOSFETs. It also connects to the source voltage sense input of the servo amplifiers. For (See Datasheet)", 6 GB (out) "Gate Drive Outputs. Gate pins pull high to 10V minimum, fully enhancing the N-channel MOSFET, when the load current creates more than 30mV of drop across the MOSFET. When the load current is small, the gates are actively (See Datasheet)", 7 FAULT (hiz) "Fault Output. Open-drain output that normally pulls the FAULT pin to VSS and shunts current to turn off an external LED or opto-coupler. In the fault condition, where the pass transistor is fully on and the voltage drop (See Datasheet)", 8 DB (in) "Drain Voltage Sense Inputs. These pins sense source drain voltage drop across the N-channel MOSFETs. An external resistor is recommended to protect these pins from transient voltages exceeding 80V in extreme fault conditions.(See Datasheet)", 9 EP (power) "Exposed pad is common to VSS and may be left open or connected to Pins 2 and 5."

## LTC4354IDDB#TRPBF
designator U?
Dual Channel, 1 us Turn-off Time, -12 to -80 V Vin, 8-pin SON (DDB-8), -40 to 85 degC, Pb-Free, Tape and Reel; Manufacturer: Linear Technology; PartNumber: LTC4354IDDB#TRPBF; Ideal Diode: Dual, External, N-Channel; DatasheetVersion: Rev. C; PackageVersion: Rev. B, 06/2010; PackageReference: DDB-8; PackageDescription: 8-Pin Plastic DFN, Body 3 x 2 mm, Pitch 0.5 mm; Supplier 1: Digi-Key; Supplier Part Number 1: LTC4354IDDB#TRPBF-ND; Supplier 2: Newark; Supplier Part Number 2: 56M9453; Packing: Tape and Reel; RoHS: TRUE; Mounting Technology: Surface Mount; Code_JEDEC: MO-229; ComponentLink1Description: Manufacturer URL; ComponentLink1URL: http://www.linear.com/; ComponentLink2Description: Datasheet; ComponentLink2URL: http://cds.linear.com/docs/en/datasheet/4354fc.pdf; ComponentLink3Description: Package Specification; ComponentLink3URL: http://cds.linear.com/docs/en/packaging/DFN_8_05-08-1702.pdf
footprint LT-DDB-8_V (SON, 8-Leads, Body 3x2mm, Pitch 0.5mm, Thermal Pad 2.2x0.61mm)
pins: 1 DA (in) "Drain Voltage Sense Inputs. These pins sense source drain voltage drop across the N-channel MOSFETs. An external resistor is recommended to protect these pins from transient voltages exceeding 80V in extreme fault conditions.(See Datasheet)", 2 VSS (power) "Negative Supply Voltage Input. This is the device negative supply input and connects to the common source connection of the N-channel MOSFETs. It also connects to the source voltage sense input of the servo amplifiers. For (See Datasheet)", 3 VCC (power) "Positive Supply Voltage Input. Connect this pin to the positive side of the supply through a resistor. An internal shunt regulator that can sink up to 20mA typically clamps VCC at 11V. Bypass this pin with a 1uF capacitor to (See Datasheet)", 4 GA (out) "Gate Drive Outputs. Gate pins pull high to 10V minimum, fully enhancing the N-channel MOSFET, when the load current creates more than 30mV of drop across the MOSFET. When the load current is small, the gates are actively (See Datasheet)", 5 VSS (power) "Negative Supply Voltage Input. This is the device negative supply input and connects to the common source connection of the N-channel MOSFETs. It also connects to the source voltage sense input of the servo amplifiers. For (See Datasheet)", 6 GB (out) "Gate Drive Outputs. Gate pins pull high to 10V minimum, fully enhancing the N-channel MOSFET, when the load current creates more than 30mV of drop across the MOSFET. When the load current is small, the gates are actively (See Datasheet)", 7 FAULT (hiz) "Fault Output. Open-drain output that normally pulls the FAULT pin to VSS and shunts current to turn off an external LED or opto-coupler. In the fault condition, where the pass transistor is fully on and the voltage drop (See Datasheet)", 8 DB (in) "Drain Voltage Sense Inputs. These pins sense source drain voltage drop across the N-channel MOSFETs. An external resistor is recommended to protect these pins from transient voltages exceeding 80V in extreme fault conditions.(See Datasheet)", 9 EP (power) "Exposed pad is common to VSS and may be left open or connected to Pins 2 and 5."

## LTC4354IS8
designator U?
Dual Channel, 1 us Turn-off Time, -12 to -80 V Vin, 8-pin SOIC (S8-8), -40 to 85 degC; Manufacturer: Linear Technology; PartNumber: LTC4354IS8; Ideal Diode: Dual, External, N-Channel; DatasheetVersion: Rev. C; PackageVersion: Rev. G, 03/2012; PackageReference: S8-8; PackageDescription: 8-Pin Plastic Small Outline (Narrow .150 Inch), Body 4.9 x 3.9 mm, Pitch 1.27 mm; Supplier 1: Digi-Key; Supplier Part Number 1: LTC4354IS8-ND; RoHS: FALSE; Mounting Technology: Surface Mount; ComponentLink1Description: Manufacturer URL; ComponentLink1URL: http://www.linear.com/; ComponentLink2Description: Datasheet; ComponentLink2URL: http://cds.linear.com/docs/en/datasheet/4354fc.pdf; ComponentLink3Description: Package Specification; ComponentLink3URL: http://cds.linear.com/docs/en/packaging/05081610_G_SO8.pdf
footprint LT-S8-8_N (SOIC, 8-Leads, Body 5x4mm, Pitch 1.27mm, IPC Medium Density)
footprint LT-S8-8_L (SOIC, 8-Leads, Body 5x4mm, Pitch 1.27mm, IPC High Density)
footprint LT-S8-8_M (SOIC, 8-Leads, Body 5x4mm, Pitch 1.27mm, IPC Low Density)
pins: 1 DA (in) "Drain Voltage Sense Inputs. These pins sense source drain voltage drop across the N-channel MOSFETs. An external resistor is recommended to protect these pins from transient voltages exceeding 80V in extreme fault conditions.(See Datasheet)", 2 VSS (power) "Negative Supply Voltage Input. This is the device negative supply input and connects to the common source connection of the N-channel MOSFETs. It also connects to the source voltage sense input of the servo amplifiers. For (See Datasheet)", 3 VCC (power) "Positive Supply Voltage Input. Connect this pin to the positive side of the supply through a resistor. An internal shunt regulator that can sink up to 20mA typically clamps VCC at 11V. Bypass this pin with a 1uF capacitor to (See Datasheet)", 4 GA (out) "Gate Drive Outputs. Gate pins pull high to 10V minimum, fully enhancing the N-channel MOSFET, when the load current creates more than 30mV of drop across the MOSFET. When the load current is small, the gates are actively (See Datasheet)", 5 VSS (power) "Negative Supply Voltage Input. This is the device negative supply input and connects to the common source connection of the N-channel MOSFETs. It also connects to the source voltage sense input of the servo amplifiers. For (See Datasheet)", 6 GB (out) "Gate Drive Outputs. Gate pins pull high to 10V minimum, fully enhancing the N-channel MOSFET, when the load current creates more than 30mV of drop across the MOSFET. When the load current is small, the gates are actively (See Datasheet)", 7 FAULT (hiz) "Fault Output. Open-drain output that normally pulls the FAULT pin to VSS and shunts current to turn off an external LED or opto-coupler. In the fault condition, where the pass transistor is fully on and the voltage drop (See Datasheet)", 8 DB (in) "Drain Voltage Sense Inputs. These pins sense source drain voltage drop across the N-channel MOSFETs. An external resistor is recommended to protect these pins from transient voltages exceeding 80V in extreme fault conditions.(See Datasheet)"